# Altium footprint library LPJ0049CNL.PcbLib: 1 footprints
Each footprint in its own frame and in the unit in brackets; x right, y up, seen from the top. Pads: shape width x height; smd on the part's side, far side on the other; paste and mask are expansions set on the pad; w line width, h text height; cw(c..) or ccw(c..) is an arc to the next point about the centre after c.
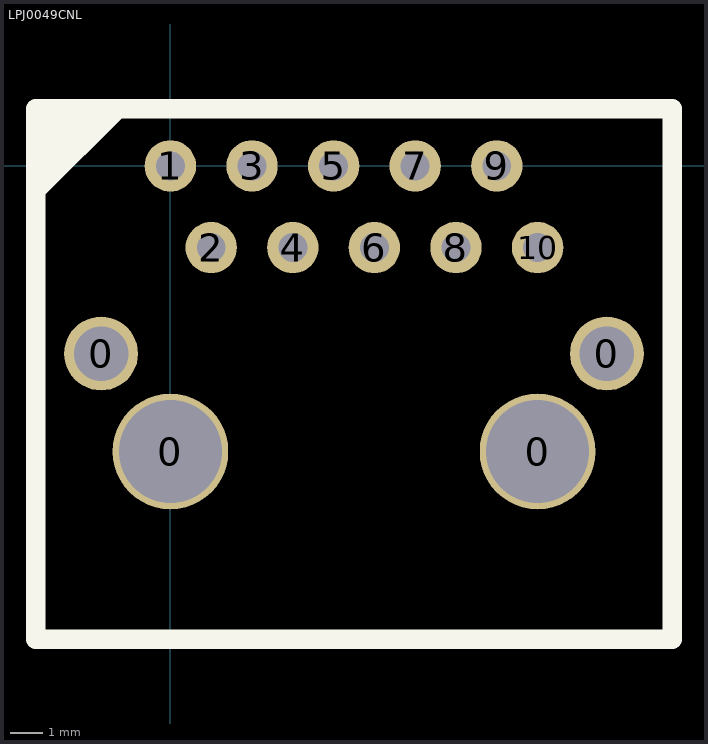
[diagram p0: the footprint, top view; thin cyan lines are the x and y axes]

## LPJ0049CNL [mm]
pads (14):
  round 2.3 hole 1.7: 0(-2.159,-5.842) 0(13.589,-5.842)
  round 3.6 hole 3.2: 0(0,-8.89) 0(11.43,-8.89)
  round 1.6 hole 0.9: 1(0,0) 2(1.27,-2.54) 3(2.54,0) 4(3.81,-2.54) 5(5.08,0) 6(6.35,-2.54) 7(7.62,0) 8(8.89,-2.54) 9(10.16,0) 10(11.43,-2.54)
Top Overlay:
  lines w0.6: -4.191,0 -2.413,1.778 ; -4.191,0.508 -4.191,0.809 -3.262,1.738 ; -4.064,-0.635 -1.714,1.714 ; -4.191,-14.732 15.621,-14.732 15.621,1.778 -4.191,1.778 -4.191,-14.732
3D body "LPJ0049CNL.STEP": height 15.45, standoff -3.5, extent -3.897,-19.7 15.328,1.55